# EAGLE library part SGC_DAC (library F030NG)
SGC DAC / STV8438cv
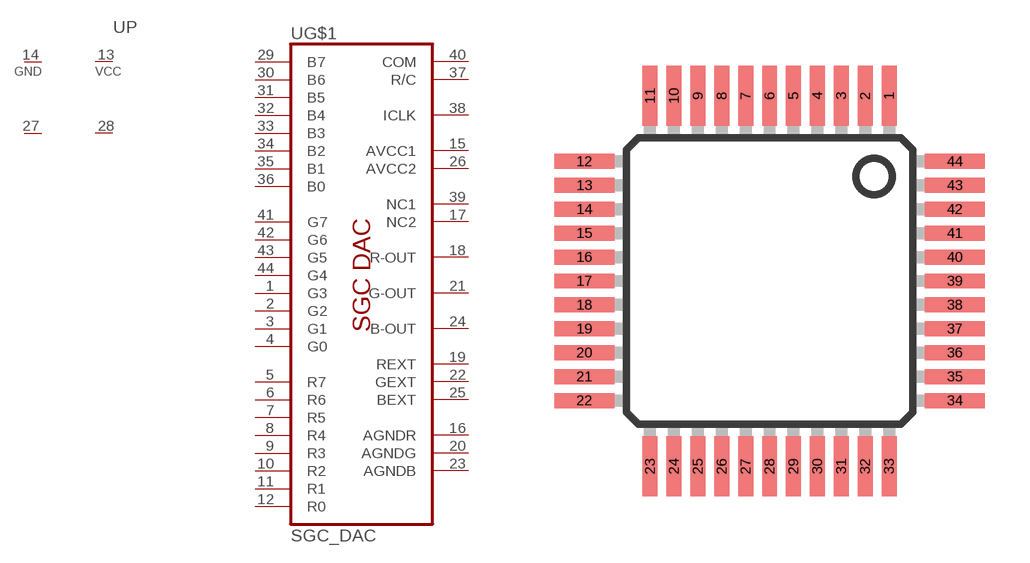
[diagram p27: symbol with the pads of PQFP44; footprint PQFP44]

Designator prefix U; gates G$1=DAC P=2VCC_2GND

## SGC_DAC  [PQFP44]
1  G$1:G3  in
2  G$1:G2  in
3  G$1:G1  in
4  G$1:G0  in
5  G$1:R7  in
6  G$1:R6  in
7  G$1:R5  in
8  G$1:R4  in
9  G$1:R3  in
10  G$1:R2  in
11  G$1:R1  in
12  G$1:R0  in
13  P:VCC  pwr
14  P:GND  pwr
15  G$1:AVCC1  in
16  G$1:AGNDR  pwr
17  G$1:NC2  nc
18  G$1:R-OUT  out
19  G$1:REXT  in
20  G$1:AGNDG  pwr
21  G$1:G-OUT  out
22  G$1:GEXT  in
23  G$1:AGNDB  pwr
24  G$1:B-OUT  out
25  G$1:BEXT  in
26  G$1:AVCC2  in
27  P:GND  pwr
28  P:VCC  pwr
29  G$1:B7  in
30  G$1:B6  in
31  G$1:B5  in
32  G$1:B4  in
33  G$1:B3  in
34  G$1:B2  in
35  G$1:B1  in
36  G$1:B0  in
37  G$1:R/C  in
38  G$1:ICLK  in
39  G$1:NC1  nc
40  G$1:COM  in
41  G$1:G7  in
42  G$1:G6  in
43  G$1:G5  in
44  G$1:G4  in

## Footprint PQFP44 (pad centres in mm)
Plastic Quad Flat Package
smd 0.5 x 2: 1 4,6.2; 2 3.2,6.2; 3 2.4,6.2; 4 1.6,6.2; 5 0.8,6.2; 6 0,6.2; 7 -0.8,6.2; 8 -1.6,6.2; 9 -2.4,6.2; 10 -3.2,6.2; 11 -4,6.2; 23 -4,-6.2; 24 -3.2,-6.2; 25 -2.4,-6.2; 26 -1.6,-6.2; 27 -0.8,-6.2; 28 0,-6.2; 29 0.8,-6.2; 30 1.6,-6.2; 31 2.4,-6.2; 32 3.2,-6.2; 33 4,-6.2
smd 2 x 0.5: 12 -6.2,4; 13 -6.2,3.2; 14 -6.2,2.4; 15 -6.2,1.6; 16 -6.2,0.8; 17 -6.2,0; 18 -6.2,-0.8; 19 -6.2,-1.6; 20 -6.2,-2.4; 21 -6.2,-3.2; 22 -6.2,-4; 34 6.2,-4; 35 6.2,-3.2; 36 6.2,-2.4; 37 6.2,-1.6; 38 6.2,-0.8; 39 6.2,0; 40 6.2,0.8; 41 6.2,1.6; 42 6.2,2.4; 43 6.2,3.2; 44 6.2,4